# Altium integrated library Analog Devices Data Converters Digital-to-Analog Converters.IntLib: 2231 symbols (part 22 of 181)
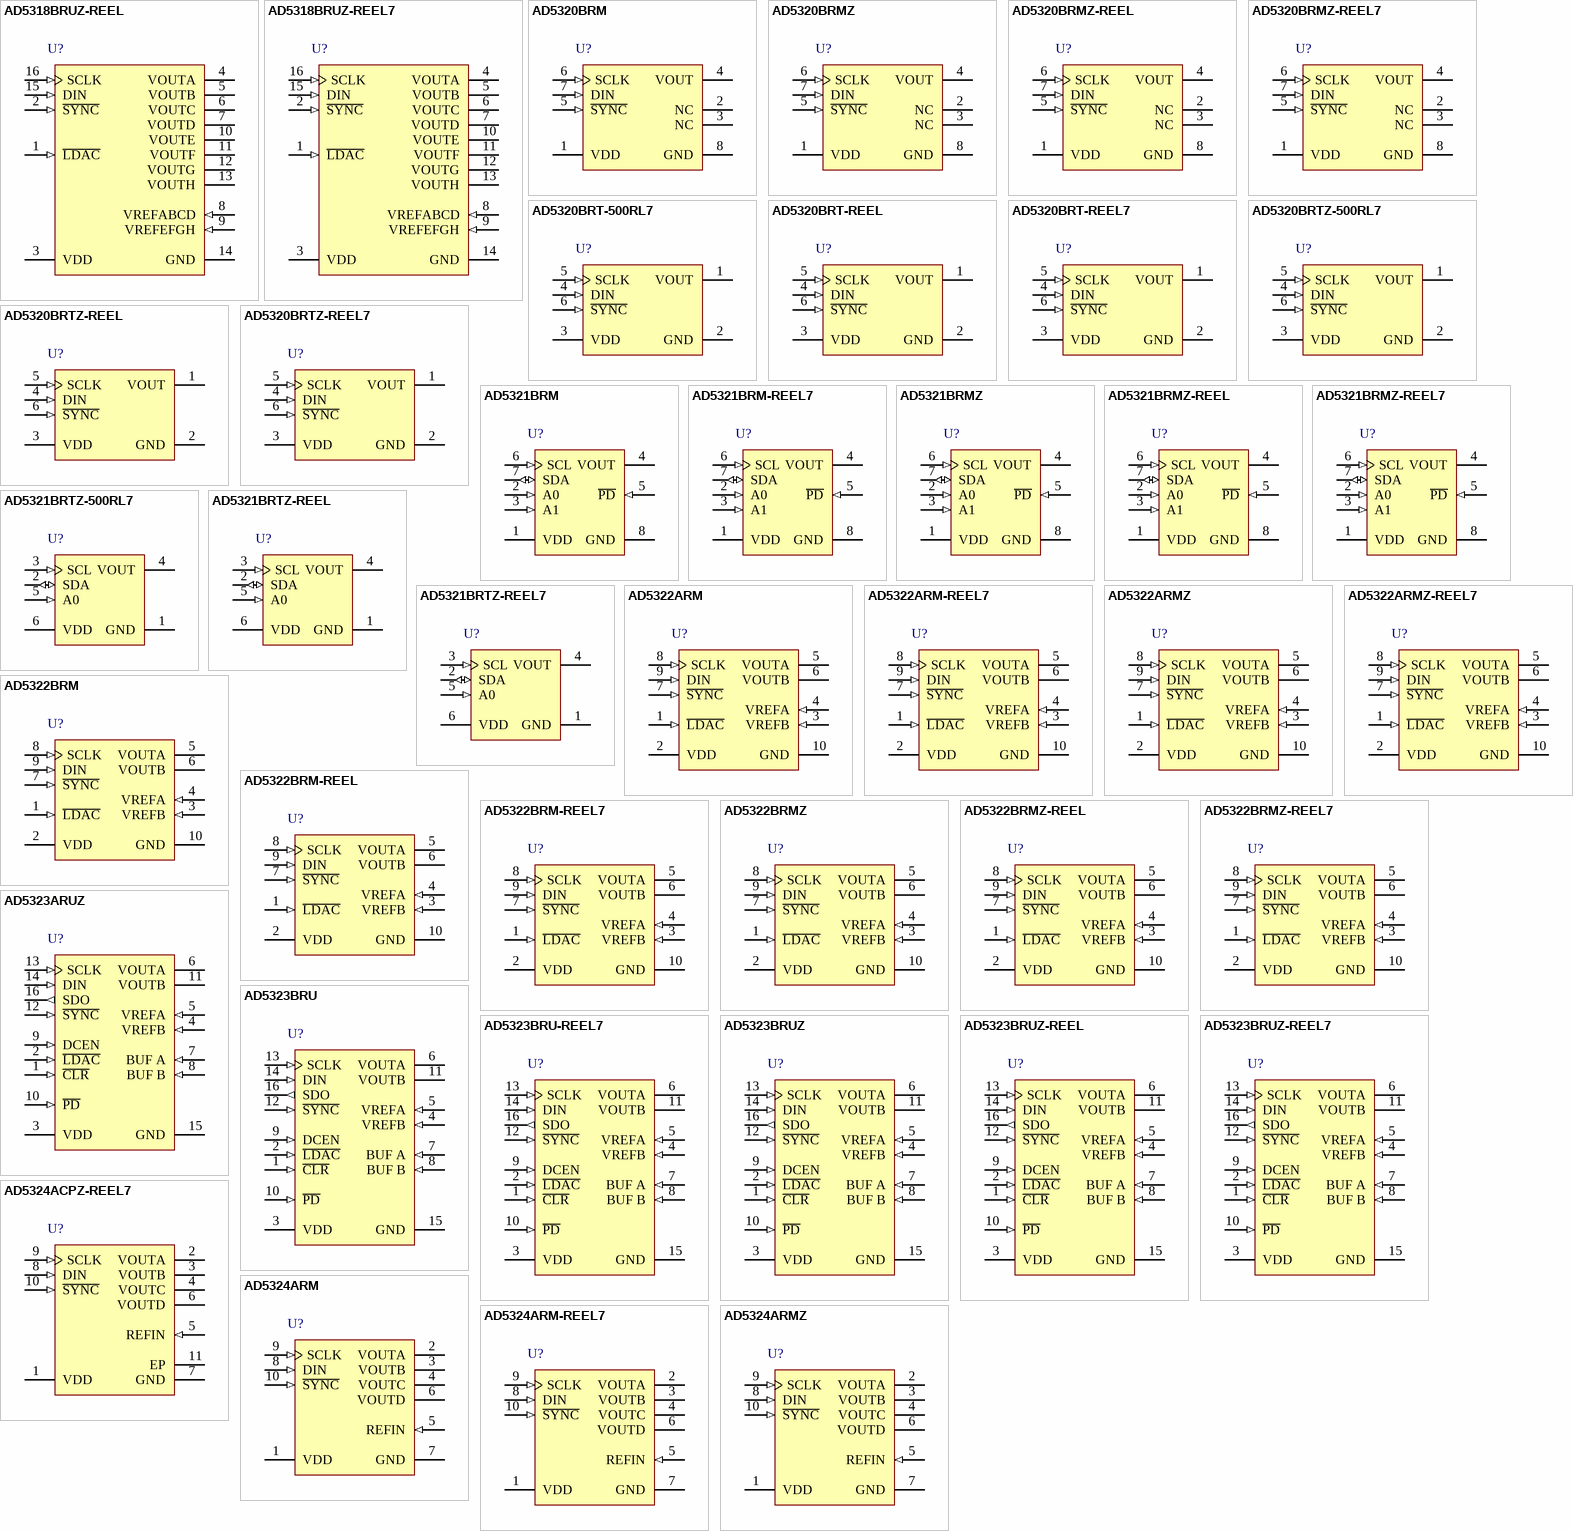
[diagram p135: symbols AD5318BRUZ-REEL to AD5324ARMZ]

## AD5322BRMZ-REEL7
designator U?
Dual 12-Bit Rail-to-Rail Output Digital-to-Analog Converter, 2.5 to 5.5 V, -40 to +105 degC, RM-10, Pb-Free, Reel; Generic Part Number: AD5322; Manufacturer: Analog Devices; PartNumber: AD5322BRMZ-REEL7; # DAC Outputs: 2; Max V+: 5.5V; Op Pwr Diss: 2.5mW; Resolution (Bits): 12; Settling Time: 8µs; Single Supply: Yes; DatasheetVersion: Rev.D; PackageVersion: May-2005; PackageReference: RM-10; PackageDescription: 10-Lead Mini Small Outline Package [MSOP]; Supplier 1: Digi-Key; Supplier Part Number 1: AD5322BRMZ-REEL7-ND; Supplier 2: Newark; Supplier Part Number 2: 87H9892; Supplier 3: Mouser; Supplier Part Number 3: 584-AD5322BRMZ-R7; Packing: Reel; RoHS: Y; Mounting Technology: Surface Mount; ComponentLink1Description: Manufacturer URL; ComponentLink1URL: http://www.analog.com/en/index.html; ComponentLink2Description: Datasheet; ComponentLink2URL: http://www.analog.com/static/imported-files/data_sheets/AD5302_5312_5322.pdf; ComponentLink3Description: Package Specification; ComponentLink3URL: http://www.analog.com/static/imported-files/packages/PKG_PDF/MSOP%28RM%29/RM_10.pdf; ComponentLink4Description: Product URL; ComponentLink4URL: http://www.analog.com/en/digital-to-analog-converters/da-converters/ad5322/products/product.html
footprint RM-10_N (TSSOP, 10-Leads, Body 3x3mm, Pitch 0.5mm, IPC Medium Density)
footprint RM-10_L (TSSOP, 10-Leads, Body 3x3mm, Pitch 0.5mm, IPC High Density)
footprint RM-10_M (TSSOP, 10-Leads, Body 3x3mm, Pitch 0.5mm, IPC Low Density)
pins: 1 ~{LDAC} (in) "Active Low Control Input. This pin transfers the contents of the input registers to their respective DAC registers. Pulsing L\D\A\C\ low allows either or both DAC registers to be updated if the input registers have new data. (See Datasheet)", 2 VDD (power) "Power Supply Input. The parts can be operated from 2.5 V to 5.5 V, and the supply should be decoupled to GND.", 3 VREFB (in) "Reference Input Pin for DAC B. This is the reference for DAC B. It can be configured as a buffered or an unbuffered input, depending on the BUF bit in the control word of DAC B. It has an input range of 0 V to VDD in (See Datasheet)", 4 VREFA (in) "Reference Input Pin for DAC A. This is the reference for DAC A. It can be configured as a buffered or an unbuffered input depending on the BUF bit in the control word of DAC A. It has an input range of 0 V to VDD in (See Datasheet)", 5 VOUTA (hiz) "Buffered Analog Output Voltage from DAC A. The output amplifier has rail-to-rail operation.", 6 VOUTB (hiz) "Buffered Analog Output Voltage from DAC B. The output amplifier has rail-to-rail operation.", 7 ~{SYNC} (in) "Active Low Control Input. This is the frame synchronization signal for the input data. When S\Y\N\C\ goes low, it powers on the SCLK and DIN buffers and enables the input shift register. Data is transferred in on the falling (See Datasheet)", 8 SCLK (in) "Serial Clock Input. Data is clocked into the input shift register on the falling edge of the serial clock input. Data can be transferred at rates up to 30 MHz. The SCLK input buffer is powered down after each write cycle.", 9 DIN (in) "Serial Data Input. This device has a 16-bit input shift register. Data is clocked into the register on the falling edge of the serial clock input. The DIN input buffer is powered down after each write cycle.", 10 GND (power) "Ground Reference Point for All Circuitry on the Part."

## AD5323ARUZ
designator U?
Dual 12-Bit Rail-to-Rail Output Digital-to-Analog Converter, 2.5 to 5.5 V, -40 to +105 degC, RU-16, Pb-Free, Tube; Generic Part Number: AD5323; Manufacturer: Analog Devices; PartNumber: AD5323ARUZ; # DAC Outputs: 2; Max V+: 5.5V; Op Pwr Diss: 2.5mW; Resolution (Bits): 12; Settling Time: 8µs; Single Supply: Yes; DatasheetVersion: Rev.B; PackageVersion: Nov-2002; PackageReference: RU-16; PackageDescription: 16-Lead Thin Shrink Small Outline Package [TSSOP]; Supplier 1: Digi-Key; Supplier Part Number 1: AD5323ARUZ-ND; Supplier 2: Mouser; Supplier Part Number 2: 584-AD5323ARUZ; Packing: Tube; RoHS: Y; Mounting Technology: Surface Mount; Code_JEDEC: MO-153-AB; ComponentLink1Description: Manufacturer URL; ComponentLink1URL: http://www.analog.com/en/index.html; ComponentLink2Description: Datasheet; ComponentLink2URL: http://www.analog.com/static/imported-files/data_sheets/AD5303_5313_5323.pdf; ComponentLink3Description: Package Specification; ComponentLink3URL: http://www.analog.com/static/imported-files/packages/36244347913743854010197452789RU16.pdf; ComponentLink4Description: Product URL; ComponentLink4URL: http://www.analog.com/en/digital-to-analog-converters/da-converters/ad5323/products/product.html
footprint RU-16_N (TSOP, 16-Leads, Body 5x4.4mm, Pitch 0.65mm, IPC Medium Density)
footprint RU-16_L (TSOP, 16-Leads, Body 5x4.4mm, Pitch 0.65mm, IPC High Density)
footprint RU-16_M (TSOP, 16-Leads, Body 5x4.4mm, Pitch 0.65mm, IPC Low Density)
pins: 1 ~{CLR} (in) "Active Low Control Input. Loads all zeros to both input and DAC registers.", 2 ~{LDAC} (in) "Active Low Control Input. Transfers the contents of the input registers to their respective DAC registers. Pulsing this pin low allows either or both DAC registers to be updated if the input registers have new data. This (See Datasheet)", 3 VDD (power) "Power Supply Input. These parts can be operated from 2.5 V to 5.5 V, and the supply should be decoupled to GND.", 4 VREFB (in) "Reference Input Pin for DAC B. It may be configured as a buffered or an unbuffered input, depending on the state of the BUF B pin. It has an input range from 0 V to VDD in unbuffered mode and from 1 V to VDD in buffered mode.", 5 VREFA (in) "Reference Input Pin for DAC A. It may be configured as a buffered or an unbuffered input depending on the state of the BUF A pin. It has an input range from 0 to VDD in unbuffered mode and from 1 V to VDD in buffered mode.", 6 VOUTA (hiz) "Buffered Analog Output Voltage from DAC A. The output amplifier has rail-to-rail operation.", 7 BUF A (in) "Control Pin. Controls whether the reference input for DAC A is unbuffered or buffered. If this pin is tied low, the reference input is unbuffered. If it is tied high, the reference input is buffered.", 8 BUF B (in) "Control Pin. Controls whether the reference input for DAC B is unbuffered or buffered. If this pin is tied low, the reference input is unbuffered. If it is tied high, the reference input is buffered.", 9 DCEN (in) "This pin is used to enable the daisy-chaining option. This should be tied high if the part is being used in a daisy chain. The pin should be tied low if it is being used in standalone mode.", 10 ~{PD} (in) "Active Low Control Input. Acts as a hardware power-down option. This pin overrides any software power-down option. Both DACs go into power-down mode when this pin is tied low. The DAC outputs go into a high impedance state (See Datasheet)", 11 VOUTB (hiz) "Buffered Analog Output Voltage from DAC B. The output amplifier has rail-to-rail operation.", 12 ~{SYNC} (in) "Active Low Control Input. This is the frame synchronization signal for the input data. When S\Y\N\C\ goes low, it powers on the SCLK and DIN buffers and enables the input shift register. Data is transferred in on the falling (See Datasheet)", 13 SCLK (in) "Serial Clock Input. Data is clocked into the input shift register on the falling edge of the serial clock input. Data can be transferred at rates up to 30 MHz. The SCLK input buffer is powered down after each write cycle.", 14 DIN (in) "Serial Data Input. This device has a 16-bit shift register. Data is clocked into the register on the falling edge of the serial clock input. The DIN input buffer is powered down after each write cycle.", 15 GND (power) "Ground Reference Point for All Circuitry on the Part.", 16 SDO (out) "Serial Data Output. Can be used for daisy-chaining a number of these devices together or for reading back the data in the shift register for diagnostic purposes. The serial data output is valid on the falling edge of the (See Datasheet)"

## AD5323BRU
designator U?
Dual 12-Bit Rail-to-Rail Output Digital-to-Analog Converter, 2.5 to 5.5 V, -40 to +105 degC, RU-16, Tube; Generic Part Number: AD5323; Manufacturer: Analog Devices; PartNumber: AD5323BRU; # DAC Outputs: 2; Max V+: 5.5V; Op Pwr Diss: 2.5mW; Resolution (Bits): 12; Settling Time: 8µs; Single Supply: Yes; DatasheetVersion: Rev.B; PackageVersion: Nov-2002; PackageReference: RU-16; PackageDescription: 16-Lead Thin Shrink Small Outline Package [TSSOP]; Supplier 1: Digi-Key; Supplier Part Number 1: AD5323BRU-ND; Supplier 2: Mouser; Supplier Part Number 2: 584-AD5323BRU; Packing: Tube; RoHS: N; Mounting Technology: Surface Mount; Code_JEDEC: MO-153-AB; ComponentLink1Description: Manufacturer URL; ComponentLink1URL: http://www.analog.com/en/index.html; ComponentLink2Description: Datasheet; ComponentLink2URL: http://www.analog.com/static/imported-files/data_sheets/AD5303_5313_5323.pdf; ComponentLink3Description: Package Specification; ComponentLink3URL: http://www.analog.com/static/imported-files/packages/36244347913743854010197452789RU16.pdf; ComponentLink4Description: Product URL; ComponentLink4URL: http://www.analog.com/en/digital-to-analog-converters/da-converters/ad5323/products/product.html
footprint RU-16_N (TSOP, 16-Leads, Body 5x4.4mm, Pitch 0.65mm, IPC Medium Density)
footprint RU-16_L (TSOP, 16-Leads, Body 5x4.4mm, Pitch 0.65mm, IPC High Density)
footprint RU-16_M (TSOP, 16-Leads, Body 5x4.4mm, Pitch 0.65mm, IPC Low Density)
pins: 1 ~{CLR} (in) "Active Low Control Input. Loads all zeros to both input and DAC registers.", 2 ~{LDAC} (in) "Active Low Control Input. Transfers the contents of the input registers to their respective DAC registers. Pulsing this pin low allows either or both DAC registers to be updated if the input registers have new data. This (See Datasheet)", 3 VDD (power) "Power Supply Input. These parts can be operated from 2.5 V to 5.5 V, and the supply should be decoupled to GND.", 4 VREFB (in) "Reference Input Pin for DAC B. It may be configured as a buffered or an unbuffered input, depending on the state of the BUF B pin. It has an input range from 0 V to VDD in unbuffered mode and from 1 V to VDD in buffered mode.", 5 VREFA (in) "Reference Input Pin for DAC A. It may be configured as a buffered or an unbuffered input depending on the state of the BUF A pin. It has an input range from 0 to VDD in unbuffered mode and from 1 V to VDD in buffered mode.", 6 VOUTA (hiz) "Buffered Analog Output Voltage from DAC A. The output amplifier has rail-to-rail operation.", 7 BUF A (in) "Control Pin. Controls whether the reference input for DAC A is unbuffered or buffered. If this pin is tied low, the reference input is unbuffered. If it is tied high, the reference input is buffered.", 8 BUF B (in) "Control Pin. Controls whether the reference input for DAC B is unbuffered or buffered. If this pin is tied low, the reference input is unbuffered. If it is tied high, the reference input is buffered.", 9 DCEN (in) "This pin is used to enable the daisy-chaining option. This should be tied high if the part is being used in a daisy chain. The pin should be tied low if it is being used in standalone mode.", 10 ~{PD} (in) "Active Low Control Input. Acts as a hardware power-down option. This pin overrides any software power-down option. Both DACs go into power-down mode when this pin is tied low. The DAC outputs go into a high impedance state (See Datasheet)", 11 VOUTB (hiz) "Buffered Analog Output Voltage from DAC B. The output amplifier has rail-to-rail operation.", 12 ~{SYNC} (in) "Active Low Control Input. This is the frame synchronization signal for the input data. When S\Y\N\C\ goes low, it powers on the SCLK and DIN buffers and enables the input shift register. Data is transferred in on the falling (See Datasheet)", 13 SCLK (in) "Serial Clock Input. Data is clocked into the input shift register on the falling edge of the serial clock input. Data can be transferred at rates up to 30 MHz. The SCLK input buffer is powered down after each write cycle.", 14 DIN (in) "Serial Data Input. This device has a 16-bit shift register. Data is clocked into the register on the falling edge of the serial clock input. The DIN input buffer is powered down after each write cycle.", 15 GND (power) "Ground Reference Point for All Circuitry on the Part.", 16 SDO (out) "Serial Data Output. Can be used for daisy-chaining a number of these devices together or for reading back the data in the shift register for diagnostic purposes. The serial data output is valid on the falling edge of the (See Datasheet)"

## AD5323BRU-REEL7
designator U?
Dual 12-Bit Rail-to-Rail Output Digital-to-Analog Converter, 2.5 to 5.5 V, -40 to +105 degC, RU-16, Reel; Generic Part Number: AD5323; Manufacturer: Analog Devices; PartNumber: AD5323BRU-REEL7; # DAC Outputs: 2; Max V+: 5.5V; Op Pwr Diss: 2.5mW; Resolution (Bits): 12; Settling Time: 8µs; Single Supply: Yes; DatasheetVersion: Rev.B; PackageVersion: Nov-2002; PackageReference: RU-16; PackageDescription: 16-Lead Thin Shrink Small Outline Package [TSSOP]; Supplier 1: Digi-Key; Supplier Part Number 1: AD5323BRU-REEL7-ND; Supplier 2: Newark; Supplier Part Number 2: 09B5202; Supplier 3: Mouser; Supplier Part Number 3: 584-AD5323BRU-R7; Packing: Reel; RoHS: N; Mounting Technology: Surface Mount; Code_JEDEC: MO-153-AB; ComponentLink1Description: Manufacturer URL; ComponentLink1URL: http://www.analog.com/en/index.html; ComponentLink2Description: Datasheet; ComponentLink2URL: http://www.analog.com/static/imported-files/data_sheets/AD5303_5313_5323.pdf; ComponentLink3Description: Package Specification; ComponentLink3URL: http://www.analog.com/static/imported-files/packages/36244347913743854010197452789RU16.pdf; ComponentLink4Description: Product URL; ComponentLink4URL: http://www.analog.com/en/digital-to-analog-converters/da-converters/ad5323/products/product.html
footprint RU-16_N (TSOP, 16-Leads, Body 5x4.4mm, Pitch 0.65mm, IPC Medium Density)
footprint RU-16_L (TSOP, 16-Leads, Body 5x4.4mm, Pitch 0.65mm, IPC High Density)
footprint RU-16_M (TSOP, 16-Leads, Body 5x4.4mm, Pitch 0.65mm, IPC Low Density)
pins: 1 ~{CLR} (in) "Active Low Control Input. Loads all zeros to both input and DAC registers.", 2 ~{LDAC} (in) "Active Low Control Input. Transfers the contents of the input registers to their respective DAC registers. Pulsing this pin low allows either or both DAC registers to be updated if the input registers have new data. This (See Datasheet)", 3 VDD (power) "Power Supply Input. These parts can be operated from 2.5 V to 5.5 V, and the supply should be decoupled to GND.", 4 VREFB (in) "Reference Input Pin for DAC B. It may be configured as a buffered or an unbuffered input, depending on the state of the BUF B pin. It has an input range from 0 V to VDD in unbuffered mode and from 1 V to VDD in buffered mode.", 5 VREFA (in) "Reference Input Pin for DAC A. It may be configured as a buffered or an unbuffered input depending on the state of the BUF A pin. It has an input range from 0 to VDD in unbuffered mode and from 1 V to VDD in buffered mode.", 6 VOUTA (hiz) "Buffered Analog Output Voltage from DAC A. The output amplifier has rail-to-rail operation.", 7 BUF A (in) "Control Pin. Controls whether the reference input for DAC A is unbuffered or buffered. If this pin is tied low, the reference input is unbuffered. If it is tied high, the reference input is buffered.", 8 BUF B (in) "Control Pin. Controls whether the reference input for DAC B is unbuffered or buffered. If this pin is tied low, the reference input is unbuffered. If it is tied high, the reference input is buffered.", 9 DCEN (in) "This pin is used to enable the daisy-chaining option. This should be tied high if the part is being used in a daisy chain. The pin should be tied low if it is being used in standalone mode.", 10 ~{PD} (in) "Active Low Control Input. Acts as a hardware power-down option. This pin overrides any software power-down option. Both DACs go into power-down mode when this pin is tied low. The DAC outputs go into a high impedance state (See Datasheet)", 11 VOUTB (hiz) "Buffered Analog Output Voltage from DAC B. The output amplifier has rail-to-rail operation.", 12 ~{SYNC} (in) "Active Low Control Input. This is the frame synchronization signal for the input data. When S\Y\N\C\ goes low, it powers on the SCLK and DIN buffers and enables the input shift register. Data is transferred in on the falling (See Datasheet)", 13 SCLK (in) "Serial Clock Input. Data is clocked into the input shift register on the falling edge of the serial clock input. Data can be transferred at rates up to 30 MHz. The SCLK input buffer is powered down after each write cycle.", 14 DIN (in) "Serial Data Input. This device has a 16-bit shift register. Data is clocked into the register on the falling edge of the serial clock input. The DIN input buffer is powered down after each write cycle.", 15 GND (power) "Ground Reference Point for All Circuitry on the Part.", 16 SDO (out) "Serial Data Output. Can be used for daisy-chaining a number of these devices together or for reading back the data in the shift register for diagnostic purposes. The serial data output is valid on the falling edge of the (See Datasheet)"

## AD5323BRUZ
designator U?
Dual 12-Bit Rail-to-Rail Output Digital-to-Analog Converter, 2.5 to 5.5 V, -40 to +105 degC, RU-16, Pb-Free, Tube; Generic Part Number: AD5323; Manufacturer: Analog Devices; PartNumber: AD5323BRUZ; # DAC Outputs: 2; Max V+: 5.5V; Op Pwr Diss: 2.5mW; Resolution (Bits): 12; Settling Time: 8µs; Single Supply: Yes; DatasheetVersion: Rev.B; PackageVersion: Nov-2002; PackageReference: RU-16; PackageDescription: 16-Lead Thin Shrink Small Outline Package [TSSOP]; Supplier 1: Digi-Key; Supplier Part Number 1: AD5323BRUZ-ND; Supplier 2: Newark; Supplier Part Number 2: 59K3936; Supplier 3: Mouser; Supplier Part Number 3: 584-AD5323BRUZ; Packing: Tube; RoHS: Y; Mounting Technology: Surface Mount; Code_JEDEC: MO-153-AB; ComponentLink1Description: Manufacturer URL; ComponentLink1URL: http://www.analog.com/en/index.html; ComponentLink2Description: Datasheet; ComponentLink2URL: http://www.analog.com/static/imported-files/data_sheets/AD5303_5313_5323.pdf; ComponentLink3Description: Package Specification; ComponentLink3URL: http://www.analog.com/static/imported-files/packages/36244347913743854010197452789RU16.pdf; ComponentLink4Description: Product URL; ComponentLink4URL: http://www.analog.com/en/digital-to-analog-converters/da-converters/ad5323/products/product.html
footprint RU-16_N (TSOP, 16-Leads, Body 5x4.4mm, Pitch 0.65mm, IPC Medium Density)
footprint RU-16_L (TSOP, 16-Leads, Body 5x4.4mm, Pitch 0.65mm, IPC High Density)
footprint RU-16_M (TSOP, 16-Leads, Body 5x4.4mm, Pitch 0.65mm, IPC Low Density)
pins: 1 ~{CLR} (in) "Active Low Control Input. Loads all zeros to both input and DAC registers.", 2 ~{LDAC} (in) "Active Low Control Input. Transfers the contents of the input registers to their respective DAC registers. Pulsing this pin low allows either or both DAC registers to be updated if the input registers have new data. This (See Datasheet)", 3 VDD (power) "Power Supply Input. These parts can be operated from 2.5 V to 5.5 V, and the supply should be decoupled to GND.", 4 VREFB (in) "Reference Input Pin for DAC B. It may be configured as a buffered or an unbuffered input, depending on the state of the BUF B pin. It has an input range from 0 V to VDD in unbuffered mode and from 1 V to VDD in buffered mode.", 5 VREFA (in) "Reference Input Pin for DAC A. It may be configured as a buffered or an unbuffered input depending on the state of the BUF A pin. It has an input range from 0 to VDD in unbuffered mode and from 1 V to VDD in buffered mode.", 6 VOUTA (hiz) "Buffered Analog Output Voltage from DAC A. The output amplifier has rail-to-rail operation.", 7 BUF A (in) "Control Pin. Controls whether the reference input for DAC A is unbuffered or buffered. If this pin is tied low, the reference input is unbuffered. If it is tied high, the reference input is buffered.", 8 BUF B (in) "Control Pin. Controls whether the reference input for DAC B is unbuffered or buffered. If this pin is tied low, the reference input is unbuffered. If it is tied high, the reference input is buffered.", 9 DCEN (in) "This pin is used to enable the daisy-chaining option. This should be tied high if the part is being used in a daisy chain. The pin should be tied low if it is being used in standalone mode.", 10 ~{PD} (in) "Active Low Control Input. Acts as a hardware power-down option. This pin overrides any software power-down option. Both DACs go into power-down mode when this pin is tied low. The DAC outputs go into a high impedance state (See Datasheet)", 11 VOUTB (hiz) "Buffered Analog Output Voltage from DAC B. The output amplifier has rail-to-rail operation.", 12 ~{SYNC} (in) "Active Low Control Input. This is the frame synchronization signal for the input data. When S\Y\N\C\ goes low, it powers on the SCLK and DIN buffers and enables the input shift register. Data is transferred in on the falling (See Datasheet)", 13 SCLK (in) "Serial Clock Input. Data is clocked into the input shift register on the falling edge of the serial clock input. Data can be transferred at rates up to 30 MHz. The SCLK input buffer is powered down after each write cycle.", 14 DIN (in) "Serial Data Input. This device has a 16-bit shift register. Data is clocked into the register on the falling edge of the serial clock input. The DIN input buffer is powered down after each write cycle.", 15 GND (power) "Ground Reference Point for All Circuitry on the Part.", 16 SDO (out) "Serial Data Output. Can be used for daisy-chaining a number of these devices together or for reading back the data in the shift register for diagnostic purposes. The serial data output is valid on the falling edge of the (See Datasheet)"

## AD5323BRUZ-REEL
designator U?
Dual 12-Bit Rail-to-Rail Output Digital-to-Analog Converter, 2.5 to 5.5 V, 0 to +70 degC, RU-16, Pb-Free, Reel; Generic Part Number: AD5323; Manufacturer: Analog Devices; PartNumber: AD5323BRUZ-REEL; # DAC Outputs: 2; Max V+: 5.5V; Op Pwr Diss: 2.5mW; Resolution (Bits): 12; Settling Time: 8µs; Single Supply: Yes; DatasheetVersion: Rev.B; PackageVersion: Nov-2002; PackageReference: RU-16; PackageDescription: 16-Lead Thin Shrink Small Outline Package [TSSOP]; Supplier 1: Digi-Key; Supplier Part Number 1: AD5323BRUZ-REEL-ND; Supplier 2: Mouser; Supplier Part Number 2: 584-AD5323BRUZ-R; Packing: Reel; RoHS: Y; Mounting Technology: Surface Mount; Code_JEDEC: MO-153-AB; ComponentLink1Description: Manufacturer URL; ComponentLink1URL: http://www.analog.com/en/index.html; ComponentLink2Description: Datasheet; ComponentLink2URL: http://www.analog.com/static/imported-files/data_sheets/AD5303_5313_5323.pdf; ComponentLink3Description: Package Specification; ComponentLink3URL: http://www.analog.com/static/imported-files/packages/36244347913743854010197452789RU16.pdf; ComponentLink4Description: Product URL; ComponentLink4URL: http://www.analog.com/en/digital-to-analog-converters/da-converters/ad5323/products/product.html
footprint RU-16_N (TSOP, 16-Leads, Body 5x4.4mm, Pitch 0.65mm, IPC Medium Density)
footprint RU-16_L (TSOP, 16-Leads, Body 5x4.4mm, Pitch 0.65mm, IPC High Density)
footprint RU-16_M (TSOP, 16-Leads, Body 5x4.4mm, Pitch 0.65mm, IPC Low Density)
pins: 1 ~{CLR} (in) "Active Low Control Input. Loads all zeros to both input and DAC registers.", 2 ~{LDAC} (in) "Active Low Control Input. Transfers the contents of the input registers to their respective DAC registers. Pulsing this pin low allows either or both DAC registers to be updated if the input registers have new data. This (See Datasheet)", 3 VDD (power) "Power Supply Input. These parts can be operated from 2.5 V to 5.5 V, and the supply should be decoupled to GND.", 4 VREFB (in) "Reference Input Pin for DAC B. It may be configured as a buffered or an unbuffered input, depending on the state of the BUF B pin. It has an input range from 0 V to VDD in unbuffered mode and from 1 V to VDD in buffered mode.", 5 VREFA (in) "Reference Input Pin for DAC A. It may be configured as a buffered or an unbuffered input depending on the state of the BUF A pin. It has an input range from 0 to VDD in unbuffered mode and from 1 V to VDD in buffered mode.", 6 VOUTA (hiz) "Buffered Analog Output Voltage from DAC A. The output amplifier has rail-to-rail operation.", 7 BUF A (in) "Control Pin. Controls whether the reference input for DAC A is unbuffered or buffered. If this pin is tied low, the reference input is unbuffered. If it is tied high, the reference input is buffered.", 8 BUF B (in) "Control Pin. Controls whether the reference input for DAC B is unbuffered or buffered. If this pin is tied low, the reference input is unbuffered. If it is tied high, the reference input is buffered.", 9 DCEN (in) "This pin is used to enable the daisy-chaining option. This should be tied high if the part is being used in a daisy chain. The pin should be tied low if it is being used in standalone mode.", 10 ~{PD} (in) "Active Low Control Input. Acts as a hardware power-down option. This pin overrides any software power-down option. Both DACs go into power-down mode when this pin is tied low. The DAC outputs go into a high impedance state (See Datasheet)", 11 VOUTB (hiz) "Buffered Analog Output Voltage from DAC B. The output amplifier has rail-to-rail operation.", 12 ~{SYNC} (in) "Active Low Control Input. This is the frame synchronization signal for the input data. When S\Y\N\C\ goes low, it powers on the SCLK and DIN buffers and enables the input shift register. Data is transferred in on the falling (See Datasheet)", 13 SCLK (in) "Serial Clock Input. Data is clocked into the input shift register on the falling edge of the serial clock input. Data can be transferred at rates up to 30 MHz. The SCLK input buffer is powered down after each write cycle.", 14 DIN (in) "Serial Data Input. This device has a 16-bit shift register. Data is clocked into the register on the falling edge of the serial clock input. The DIN input buffer is powered down after each write cycle.", 15 GND (power) "Ground Reference Point for All Circuitry on the Part.", 16 SDO (out) "Serial Data Output. Can be used for daisy-chaining a number of these devices together or for reading back the data in the shift register for diagnostic purposes. The serial data output is valid on the falling edge of the (See Datasheet)"

## AD5323BRUZ-REEL7
designator U?
Dual 12-Bit Rail-to-Rail Output Digital-to-Analog Converter, 2.5 to 5.5 V, 0 to +70 degC, RU-16, Pb-Free, Reel; Generic Part Number: AD5323; Manufacturer: Analog Devices; PartNumber: AD5323BRUZ-REEL7; # DAC Outputs: 2; Max V+: 5.5V; Op Pwr Diss: 2.5mW; Resolution (Bits): 12; Settling Time: 8µs; Single Supply: Yes; DatasheetVersion: Rev.B; PackageVersion: Nov-2002; PackageReference: RU-16; PackageDescription: 16-Lead Thin Shrink Small Outline Package [TSSOP]; Supplier 1: Digi-Key; Supplier Part Number 1: AD5323BRUZ-REEL7TR-ND; Supplier 2: Digi-Key; Supplier Part Number 2: AD5323BRUZ-REEL7CT-ND; Supplier 3: Digi-Key; Supplier Part Number 3: AD5323BRUZ-REEL7DKR-ND; Supplier 4: Newark; Supplier Part Number 4: 59K3938; Supplier 5: Mouser; Supplier Part Number 5: 584-AD5323BRUZ-R7; Packing: Reel; RoHS: Y; Mounting Technology: Surface Mount; Code_JEDEC: MO-153-AB; ComponentLink1Description: Manufacturer URL; ComponentLink1URL: http://www.analog.com/en/index.html; ComponentLink2Description: Datasheet; ComponentLink2URL: http://www.analog.com/static/imported-files/data_sheets/AD5303_5313_5323.pdf; ComponentLink3Description: Package Specification; ComponentLink3URL: http://www.analog.com/static/imported-files/packages/36244347913743854010197452789RU16.pdf; ComponentLink4Description: Product URL; ComponentLink4URL: http://www.analog.com/en/digital-to-analog-converters/da-converters/ad5323/products/product.html
footprint RU-16_N (TSOP, 16-Leads, Body 5x4.4mm, Pitch 0.65mm, IPC Medium Density)
footprint RU-16_L (TSOP, 16-Leads, Body 5x4.4mm, Pitch 0.65mm, IPC High Density)
footprint RU-16_M (TSOP, 16-Leads, Body 5x4.4mm, Pitch 0.65mm, IPC Low Density)
pins: 1 ~{CLR} (in) "Active Low Control Input. Loads all zeros to both input and DAC registers.", 2 ~{LDAC} (in) "Active Low Control Input. Transfers the contents of the input registers to their respective DAC registers. Pulsing this pin low allows either or both DAC registers to be updated if the input registers have new data. This (See Datasheet)", 3 VDD (power) "Power Supply Input. These parts can be operated from 2.5 V to 5.5 V, and the supply should be decoupled to GND.", 4 VREFB (in) "Reference Input Pin for DAC B. It may be configured as a buffered or an unbuffered input, depending on the state of the BUF B pin. It has an input range from 0 V to VDD in unbuffered mode and from 1 V to VDD in buffered mode.", 5 VREFA (in) "Reference Input Pin for DAC A. It may be configured as a buffered or an unbuffered input depending on the state of the BUF A pin. It has an input range from 0 to VDD in unbuffered mode and from 1 V to VDD in buffered mode.", 6 VOUTA (hiz) "Buffered Analog Output Voltage from DAC A. The output amplifier has rail-to-rail operation.", 7 BUF A (in) "Control Pin. Controls whether the reference input for DAC A is unbuffered or buffered. If this pin is tied low, the reference input is unbuffered. If it is tied high, the reference input is buffered.", 8 BUF B (in) "Control Pin. Controls whether the reference input for DAC B is unbuffered or buffered. If this pin is tied low, the reference input is unbuffered. If it is tied high, the reference input is buffered.", 9 DCEN (in) "This pin is used to enable the daisy-chaining option. This should be tied high if the part is being used in a daisy chain. The pin should be tied low if it is being used in standalone mode.", 10 ~{PD} (in) "Active Low Control Input. Acts as a hardware power-down option. This pin overrides any software power-down option. Both DACs go into power-down mode when this pin is tied low. The DAC outputs go into a high impedance state (See Datasheet)", 11 VOUTB (hiz) "Buffered Analog Output Voltage from DAC B. The output amplifier has rail-to-rail operation.", 12 ~{SYNC} (in) "Active Low Control Input. This is the frame synchronization signal for the input data. When S\Y\N\C\ goes low, it powers on the SCLK and DIN buffers and enables the input shift register. Data is transferred in on the falling (See Datasheet)", 13 SCLK (in) "Serial Clock Input. Data is clocked into the input shift register on the falling edge of the serial clock input. Data can be transferred at rates up to 30 MHz. The SCLK input buffer is powered down after each write cycle.", 14 DIN (in) "Serial Data Input. This device has a 16-bit shift register. Data is clocked into the register on the falling edge of the serial clock input. The DIN input buffer is powered down after each write cycle.", 15 GND (power) "Ground Reference Point for All Circuitry on the Part.", 16 SDO (out) "Serial Data Output. Can be used for daisy-chaining a number of these devices together or for reading back the data in the shift register for diagnostic purposes. The serial data output is valid on the falling edge of the (See Datasheet)"

## AD5324ACPZ-REEL7
designator U?
Quad 12-Bit Quad Voltage Output Digital-to-Analog Converter, 2.5 to 5.5 V, 500 uA, -40 to +105 degC, CP-10-9, Pb-Free, Reel; Generic Part Number: AD5324; Manufacturer: Analog Devices; PartNumber: AD5324ACPZ-REEL7; # DAC Outputs: 4; Max V+: 5.5V; Op Pwr Diss: 5mW; Resolution (Bits): 12; Settling Time: 8µs; Single Supply: Yes; DatasheetVersion: Rev.H; PackageVersion: 02-27-2012-B; PackageReference: CP-10-9; PackageDescription: 10-Lead Lead Frame Chip Scale Package [LFCSP_WD] 3 x 3 mm Body, Very Very Thin, Dual Lead; Supplier 1: Digi-Key; Supplier Part Number 1: AD5324ACPZ-REEL7TR-ND; Supplier 2: Digi-Key; Supplier Part Number 2: AD5324ACPZ-REEL7CT-ND; Supplier 3: Digi-Key; Supplier Part Number 3: AD5324ACPZ-REEL7DKR-ND; Supplier 4: Mouser; Supplier Part Number 4: 584-AD5324ACPZ-R7; Packing: Reel; RoHS: Y; Mounting Technology: Surface Mount; ComponentLink1Description: Manufacturer URL; ComponentLink1URL: http://www.analog.com/en/index.html; ComponentLink2Description: Datasheet; ComponentLink2URL: http://www.analog.com/static/imported-files/data_sheets/AD5304_5314_5324.pdf; ComponentLink3Description: Package Specification; ComponentLink3URL: http://www.analog.com/static/imported-files/packages/CP_10_9.pdf; ComponentLink4Description: Product URL; ComponentLink4URL: http://www.analog.com/en/digital-to-analog-converters/da-converters/ad5324/products/product.html
footprint CP-10-9_N (SON, 10-Leads, Body 3x3mm, Pitch 0.5mm, Thermal Pad 2.35x1.6mm, IPC Medium Density)
footprint CP-10-9_L (SON, 10-Leads, Body 3x3mm, Pitch 0.5mm, Thermal Pad 2.35x1.6mm, IPC High Density)
footprint CP-10-9_M (SON, 10-Leads, Body 3x3mm, Pitch 0.5mm, Thermal Pad 2.35x1.6mm, IPC Low Density)
pins: 1 VDD (power) "Power Supply Input. These parts can be operated from 2.5 V to 5.5 V and the supply can be decoupled to GND.", 2 VOUTA (hiz) "Buffered Analog Output Voltage from DAC A. The output amplifier has rail-to-rail operation.", 3 VOUTB (hiz) "Buffered Analog Output Voltage from DAC B. The output amplifier has rail-to-rail operation.", 4 VOUTC (hiz) "Buffered Analog Output Voltage from DAC C. The output amplifier has rail-to-rail operation.", 5 REFIN (in) "Reference Input Pin for All Four DACs. It has an input range from 0.25 V to VDD.", 6 VOUTD (hiz) "Buffered Analog Output Voltage from DAC D. The output amplifier has rail-to-rail operation.", 7 GND (power) "Ground Reference Point for All Circuitry on the Part.", 8 DIN (in) "Serial Data Input. This device has a 16-bit shift register. Data is clocked into the register on the falling edge of the serial clock input. The DIN input buffer is powered down after each write cycle.", 9 SCLK (in) "Serial Clock Input. Data is clocked into the input shift register on the falling edge of the serial clock input. Data can be transferred at clock speeds up to 30 MHz. The SCLK input buffer is powered down after each write (See Datasheet)", 10 ~{SYNC} (in) "Active Low Control Input. This is the frame synchronization signal for the input data. When S\Y\N\C\ goes low, it enables the input shift register and data is transferred in on the falling edges of the following 16 clocks. (See Datasheet)", 11 EP (power) "Ground Reference Point for All Circuitry on the Part. Can be connected to 0 V or left unconnected provided there is a connection to 0 V via the GND pin."

## AD5324ARM
designator U?
Quad 12-Bit Quad Voltage Output Digital-to-Analog Converter, 2.5 to 5.5 V, 500 uA, -40 to +105 degC, RM-10, Tube; Generic Part Number: AD5324; Manufacturer: Analog Devices; PartNumber: AD5324ARM; # DAC Outputs: 4; Max V+: 5.5V; Op Pwr Diss: 5mW; Resolution (Bits): 12; Settling Time: 8µs; Single Supply: Yes; DatasheetVersion: Rev.H; PackageVersion: May-2005; PackageReference: RM-10; PackageDescription: 10-Lead Mini Small Outline Package [MSOP]; Supplier 1: Digi-Key; Supplier Part Number 1: AD5324ARM-ND; Supplier 2: Mouser; Supplier Part Number 2: 584-AD5324ARM; Packing: Tube; RoHS: N; Mounting Technology: Surface Mount; ComponentLink1Description: Manufacturer URL; ComponentLink1URL: http://www.analog.com/en/index.html; ComponentLink2Description: Datasheet; ComponentLink2URL: http://www.analog.com/static/imported-files/data_sheets/AD5304_5314_5324.pdf; ComponentLink3Description: Package Specification; ComponentLink3URL: http://www.analog.com/static/imported-files/packages/PKG_PDF/MSOP%28RM%29/RM_10.pdf; ComponentLink4Description: Product URL; ComponentLink4URL: http://www.analog.com/en/digital-to-analog-converters/da-converters/ad5324/products/product.html
footprint RM-10_N (TSSOP, 10-Leads, Body 3x3mm, Pitch 0.5mm, IPC Medium Density)
footprint RM-10_L (TSSOP, 10-Leads, Body 3x3mm, Pitch 0.5mm, IPC High Density)
footprint RM-10_M (TSSOP, 10-Leads, Body 3x3mm, Pitch 0.5mm, IPC Low Density)
pins: 1 VDD (power) "Power Supply Input. These parts can be operated from 2.5 V to 5.5 V and the supply can be decoupled to GND.", 2 VOUTA (hiz) "Buffered Analog Output Voltage from DAC A. The output amplifier has rail-to-rail operation.", 3 VOUTB (hiz) "Buffered Analog Output Voltage from DAC B. The output amplifier has rail-to-rail operation.", 4 VOUTC (hiz) "Buffered Analog Output Voltage from DAC C. The output amplifier has rail-to-rail operation.", 5 REFIN (in) "Reference Input Pin for All Four DACs. It has an input range from 0.25 V to VDD.", 6 VOUTD (hiz) "Buffered Analog Output Voltage from DAC D. The output amplifier has rail-to-rail operation.", 7 GND (power) "Ground Reference Point for All Circuitry on the Part.", 8 DIN (in) "Serial Data Input. This device has a 16-bit shift register. Data is clocked into the register on the falling edge of the serial clock input. The DIN input buffer is powered down after each write cycle.", 9 SCLK (in) "Serial Clock Input. Data is clocked into the input shift register on the falling edge of the serial clock input. Data can be transferred at clock speeds up to 30 MHz. The SCLK input buffer is powered down after each write (See Datasheet)", 10 ~{SYNC} (in) "Active Low Control Input. This is the frame synchronization signal for the input data. When S\Y\N\C\ goes low, it enables the input shift register and data is transferred in on the falling edges of the following 16 clocks. (See Datasheet)"

## AD5324ARM-REEL7
designator U?
Quad 12-Bit Quad Voltage Output Digital-to-Analog Converter, 2.5 to 5.5 V, 500 uA, -40 to +105 degC, RM-10, Reel; Generic Part Number: AD5324; Manufacturer: Analog Devices; PartNumber: AD5324ARM-REEL7; # DAC Outputs: 4; Max V+: 5.5V; Op Pwr Diss: 5mW; Resolution (Bits): 12; Settling Time: 8µs; Single Supply: Yes; DatasheetVersion: Rev.H; PackageVersion: May-2005; PackageReference: RM-10; PackageDescription: 10-Lead Mini Small Outline Package [MSOP]; Supplier 1: Digi-Key; Supplier Part Number 1: AD5324ARM-REEL7-ND; Supplier 2: Mouser; Supplier Part Number 2: 584-AD5324ARM-R7; Packing: Reel; RoHS: N; Mounting Technology: Surface Mount; ComponentLink1Description: Manufacturer URL; ComponentLink1URL: http://www.analog.com/en/index.html; ComponentLink2Description: Datasheet; ComponentLink2URL: http://www.analog.com/static/imported-files/data_sheets/AD5304_5314_5324.pdf; ComponentLink3Description: Package Specification; ComponentLink3URL: http://www.analog.com/static/imported-files/packages/PKG_PDF/MSOP%28RM%29/RM_10.pdf; ComponentLink4Description: Product URL; ComponentLink4URL: http://www.analog.com/en/digital-to-analog-converters/da-converters/ad5324/products/product.html
footprint RM-10_N (TSSOP, 10-Leads, Body 3x3mm, Pitch 0.5mm, IPC Medium Density)
footprint RM-10_L (TSSOP, 10-Leads, Body 3x3mm, Pitch 0.5mm, IPC High Density)
footprint RM-10_M (TSSOP, 10-Leads, Body 3x3mm, Pitch 0.5mm, IPC Low Density)
pins: 1 VDD (power) "Power Supply Input. These parts can be operated from 2.5 V to 5.5 V and the supply can be decoupled to GND.", 2 VOUTA (hiz) "Buffered Analog Output Voltage from DAC A. The output amplifier has rail-to-rail operation.", 3 VOUTB (hiz) "Buffered Analog Output Voltage from DAC B. The output amplifier has rail-to-rail operation.", 4 VOUTC (hiz) "Buffered Analog Output Voltage from DAC C. The output amplifier has rail-to-rail operation.", 5 REFIN (in) "Reference Input Pin for All Four DACs. It has an input range from 0.25 V to VDD.", 6 VOUTD (hiz) "Buffered Analog Output Voltage from DAC D. The output amplifier has rail-to-rail operation.", 7 GND (power) "Ground Reference Point for All Circuitry on the Part.", 8 DIN (in) "Serial Data Input. This device has a 16-bit shift register. Data is clocked into the register on the falling edge of the serial clock input. The DIN input buffer is powered down after each write cycle.", 9 SCLK (in) "Serial Clock Input. Data is clocked into the input shift register on the falling edge of the serial clock input. Data can be transferred at clock speeds up to 30 MHz. The SCLK input buffer is powered down after each write (See Datasheet)", 10 ~{SYNC} (in) "Active Low Control Input. This is the frame synchronization signal for the input data. When S\Y\N\C\ goes low, it enables the input shift register and data is transferred in on the falling edges of the following 16 clocks. (See Datasheet)"

## AD5324ARMZ
designator U?
Quad 12-Bit Quad Voltage Output Digital-to-Analog Converter, 2.5 to 5.5 V, 500 uA, -40 to +105 degC, RM-10, Pb-Free, Tube; Generic Part Number: AD5324; Manufacturer: Analog Devices; PartNumber: AD5324ARMZ; # DAC Outputs: 4; Max V+: 5.5V; Op Pwr Diss: 5mW; Resolution (Bits): 12; Settling Time: 8µs; Single Supply: Yes; DatasheetVersion: Rev.H; PackageVersion: May-2005; PackageReference: RM-10; PackageDescription: 10-Lead Mini Small Outline Package [MSOP]; Supplier 1: Digi-Key; Supplier Part Number 1: AD5324ARMZ-ND; Supplier 2: Newark; Supplier Part Number 2: 59K3939; Supplier 3: Mouser; Supplier Part Number 3: 584-AD5324ARMZ; Packing: Tube; RoHS: Y; Mounting Technology: Surface Mount; ComponentLink1Description: Manufacturer URL; ComponentLink1URL: http://www.analog.com/en/index.html; ComponentLink2Description: Datasheet; ComponentLink2URL: http://www.analog.com/static/imported-files/data_sheets/AD5304_5314_5324.pdf; ComponentLink3Description: Package Specification; ComponentLink3URL: http://www.analog.com/static/imported-files/packages/PKG_PDF/MSOP%28RM%29/RM_10.pdf; ComponentLink4Description: Product URL; ComponentLink4URL: http://www.analog.com/en/digital-to-analog-converters/da-converters/ad5324/products/product.html
footprint RM-10_N (TSSOP, 10-Leads, Body 3x3mm, Pitch 0.5mm, IPC Medium Density)
footprint RM-10_L (TSSOP, 10-Leads, Body 3x3mm, Pitch 0.5mm, IPC High Density)
footprint RM-10_M (TSSOP, 10-Leads, Body 3x3mm, Pitch 0.5mm, IPC Low Density)
pins: 1 VDD (power) "Power Supply Input. These parts can be operated from 2.5 V to 5.5 V and the supply can be decoupled to GND.", 2 VOUTA (hiz) "Buffered Analog Output Voltage from DAC A. The output amplifier has rail-to-rail operation.", 3 VOUTB (hiz) "Buffered Analog Output Voltage from DAC B. The output amplifier has rail-to-rail operation.", 4 VOUTC (hiz) "Buffered Analog Output Voltage from DAC C. The output amplifier has rail-to-rail operation.", 5 REFIN (in) "Reference Input Pin for All Four DACs. It has an input range from 0.25 V to VDD.", 6 VOUTD (hiz) "Buffered Analog Output Voltage from DAC D. The output amplifier has rail-to-rail operation.", 7 GND (power) "Ground Reference Point for All Circuitry on the Part.", 8 DIN (in) "Serial Data Input. This device has a 16-bit shift register. Data is clocked into the register on the falling edge of the serial clock input. The DIN input buffer is powered down after each write cycle.", 9 SCLK (in) "Serial Clock Input. Data is clocked into the input shift register on the falling edge of the serial clock input. Data can be transferred at clock speeds up to 30 MHz. The SCLK input buffer is powered down after each write (See Datasheet)", 10 ~{SYNC} (in) "Active Low Control Input. This is the frame synchronization signal for the input data. When S\Y\N\C\ goes low, it enables the input shift register and data is transferred in on the falling edges of the following 16 clocks. (See Datasheet)"

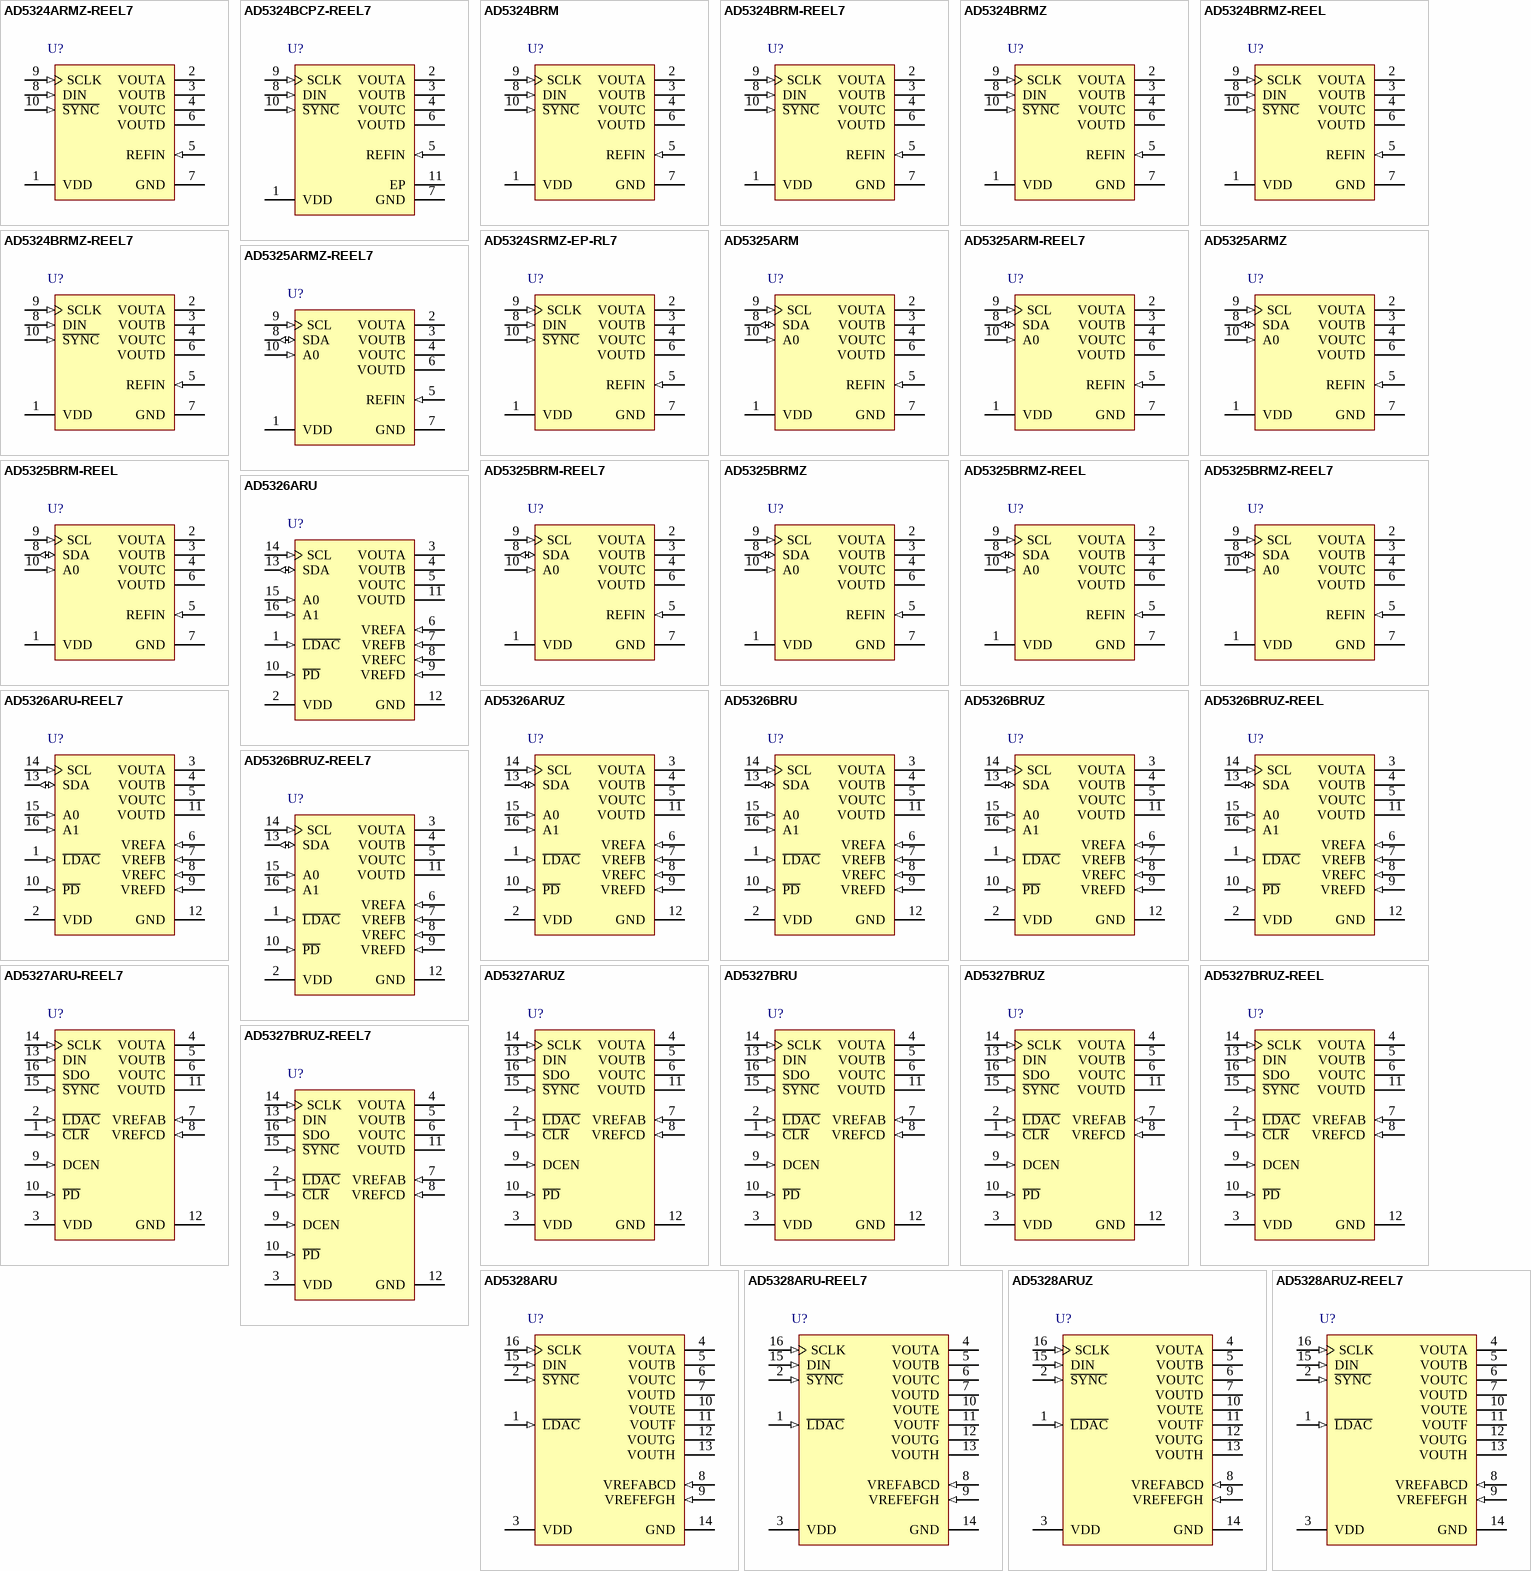
[diagram p14: symbols AD5324ARMZ-REEL7 to AD5328ARUZ-REEL7]

## AD5324ARMZ-REEL7
designator U?
Quad 12-Bit Quad Voltage Output Digital-to-Analog Converter, 2.5 to 5.5 V, 500 uA, -40 to +105 degC, RM-10, Pb-Free, Reel; Generic Part Number: AD5324; Manufacturer: Analog Devices; PartNumber: AD5324ARMZ-REEL7; # DAC Outputs: 4; Max V+: 5.5V; Op Pwr Diss: 5mW; Resolution (Bits): 12; Settling Time: 8µs; Single Supply: Yes; DatasheetVersion: Rev.H; PackageVersion: May-2005; PackageReference: RM-10; PackageDescription: 10-Lead Mini Small Outline Package [MSOP]; Supplier 1: Digi-Key; Supplier Part Number 1: AD5324ARMZ-REEL7-ND; Supplier 2: Newark; Supplier Part Number 2: 28M3987; Supplier 3: Mouser; Supplier Part Number 3: 584-AD5324ARMZ-R7; Packing: Reel; RoHS: Y; Mounting Technology: Surface Mount; ComponentLink1Description: Manufacturer URL; ComponentLink1URL: http://www.analog.com/en/index.html; ComponentLink2Description: Datasheet; ComponentLink2URL: http://www.analog.com/static/imported-files/data_sheets/AD5304_5314_5324.pdf; ComponentLink3Description: Package Specification; ComponentLink3URL: http://www.analog.com/static/imported-files/packages/PKG_PDF/MSOP%28RM%29/RM_10.pdf; ComponentLink4Description: Product URL; ComponentLink4URL: http://www.analog.com/en/digital-to-analog-converters/da-converters/ad5324/products/product.html
footprint RM-10_N (TSSOP, 10-Leads, Body 3x3mm, Pitch 0.5mm, IPC Medium Density)
footprint RM-10_L (TSSOP, 10-Leads, Body 3x3mm, Pitch 0.5mm, IPC High Density)
footprint RM-10_M (TSSOP, 10-Leads, Body 3x3mm, Pitch 0.5mm, IPC Low Density)
pins: 1 VDD (power) "Power Supply Input. These parts can be operated from 2.5 V to 5.5 V and the supply can be decoupled to GND.", 2 VOUTA (hiz) "Buffered Analog Output Voltage from DAC A. The output amplifier has rail-to-rail operation.", 3 VOUTB (hiz) "Buffered Analog Output Voltage from DAC B. The output amplifier has rail-to-rail operation.", 4 VOUTC (hiz) "Buffered Analog Output Voltage from DAC C. The output amplifier has rail-to-rail operation.", 5 REFIN (in) "Reference Input Pin for All Four DACs. It has an input range from 0.25 V to VDD.", 6 VOUTD (hiz) "Buffered Analog Output Voltage from DAC D. The output amplifier has rail-to-rail operation.", 7 GND (power) "Ground Reference Point for All Circuitry on the Part.", 8 DIN (in) "Serial Data Input. This device has a 16-bit shift register. Data is clocked into the register on the falling edge of the serial clock input. The DIN input buffer is powered down after each write cycle.", 9 SCLK (in) "Serial Clock Input. Data is clocked into the input shift register on the falling edge of the serial clock input. Data can be transferred at clock speeds up to 30 MHz. The SCLK input buffer is powered down after each write (See Datasheet)", 10 ~{SYNC} (in) "Active Low Control Input. This is the frame synchronization signal for the input data. When S\Y\N\C\ goes low, it enables the input shift register and data is transferred in on the falling edges of the following 16 clocks. (See Datasheet)"

## AD5324BCPZ-REEL7
designator U?
Quad 12-Bit Quad Voltage Output Digital-to-Analog Converter, 2.5 to 5.5 V, 500 uA, -40 to +105 degC, CP-10-9, Pb-Free, Reel; Generic Part Number: AD5324; Manufacturer: Analog Devices; PartNumber: AD5324BCPZ-REEL7; # DAC Outputs: 4; Max V+: 5.5V; Op Pwr Diss: 5mW; Resolution (Bits): 12; Settling Time: 8µs; Single Supply: Yes; DatasheetVersion: Rev.H; PackageVersion: 02-27-2012-B; PackageReference: CP-10-9; PackageDescription: 10-Lead Lead Frame Chip Scale Package [LFCSP_WD] 3 x 3 mm Body, Very Very Thin, Dual Lead; Supplier 1: Digi-Key; Supplier Part Number 1: AD5324BCPZ-REEL7TR-ND; Supplier 2: Digi-Key; Supplier Part Number 2: AD5324BCPZ-REEL7CT-ND; Supplier 3: Digi-Key; Supplier Part Number 3: AD5324BCPZ-REEL7DKR-ND; Supplier 4: Mouser; Supplier Part Number 4: 584-AD5324BCPZ-R7; Packing: Reel; RoHS: Y; Mounting Technology: Surface Mount; ComponentLink1Description: Manufacturer URL; ComponentLink1URL: http://www.analog.com/en/index.html; ComponentLink2Description: Datasheet; ComponentLink2URL: http://www.analog.com/static/imported-files/data_sheets/AD5304_5314_5324.pdf; ComponentLink3Description: Package Specification; ComponentLink3URL: http://www.analog.com/static/imported-files/packages/CP_10_9.pdf; ComponentLink4Description: Product URL; ComponentLink4URL: http://www.analog.com/en/digital-to-analog-converters/da-converters/ad5324/products/product.html
footprint CP-10-9_N (SON, 10-Leads, Body 3x3mm, Pitch 0.5mm, Thermal Pad 2.35x1.6mm, IPC Medium Density)
footprint CP-10-9_L (SON, 10-Leads, Body 3x3mm, Pitch 0.5mm, Thermal Pad 2.35x1.6mm, IPC High Density)
footprint CP-10-9_M (SON, 10-Leads, Body 3x3mm, Pitch 0.5mm, Thermal Pad 2.35x1.6mm, IPC Low Density)
pins: 1 VDD (power) "Power Supply Input. These parts can be operated from 2.5 V to 5.5 V and the supply can be decoupled to GND.", 2 VOUTA (hiz) "Buffered Analog Output Voltage from DAC A. The output amplifier has rail-to-rail operation.", 3 VOUTB (hiz) "Buffered Analog Output Voltage from DAC B. The output amplifier has rail-to-rail operation.", 4 VOUTC (hiz) "Buffered Analog Output Voltage from DAC C. The output amplifier has rail-to-rail operation.", 5 REFIN (in) "Reference Input Pin for All Four DACs. It has an input range from 0.25 V to VDD.", 6 VOUTD (hiz) "Buffered Analog Output Voltage from DAC D. The output amplifier has rail-to-rail operation.", 7 GND (power) "Ground Reference Point for All Circuitry on the Part.", 8 DIN (in) "Serial Data Input. This device has a 16-bit shift register. Data is clocked into the register on the falling edge of the serial clock input. The DIN input buffer is powered down after each write cycle.", 9 SCLK (in) "Serial Clock Input. Data is clocked into the input shift register on the falling edge of the serial clock input. Data can be transferred at clock speeds up to 30 MHz. The SCLK input buffer is powered down after each write (See Datasheet)", 10 ~{SYNC} (in) "Active Low Control Input. This is the frame synchronization signal for the input data. When S\Y\N\C\ goes low, it enables the input shift register and data is transferred in on the falling edges of the following 16 clocks. (See Datasheet)", 11 EP (power) "Ground Reference Point for All Circuitry on the Part. Can be connected to 0 V or left unconnected provided there is a connection to 0 V via the GND pin."